# EAGLE library part SPARK_ECG (library SPARK_ECG)
Sparkfun AD8232
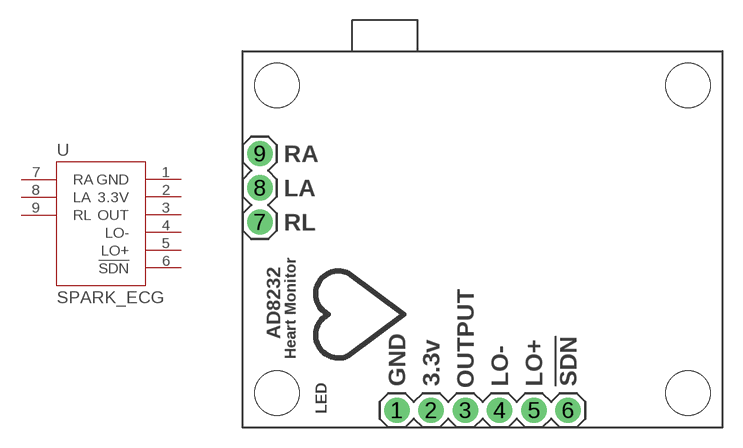
[diagram p0: symbol with the pads of SPARK_ECG; footprint SPARK_ECG]

Designator prefix -

## SPARK_ECG  [SPARK_ECG]
1  GND  pwr
2  3.3V  pwr
3  OUT  out
4  LO-  out
5  LO+  out
6  !SDN
7  RA  in
8  LA  in
9  RL  in

## Footprint SPARK_ECG (pad centres in mm)
Sparkfun ECG AD8232
drill 1.016 pad 1.88: 1 11.43,1.27; 2 13.97,1.27; 3 16.51,1.27; 4 19.05,1.27; 5 21.59,1.27; 6 24.13,1.27; 7 1.27,15.24; 8 1.27,17.78; 9 1.27,20.32
hole 3.302 at 2.54,25.4
hole 3.302 at 33.02,25.4
hole 3.302 at 33.02,2.54
hole 3.302 at 2.54,2.54